# Altium schematic symbol library 1_SLOT_PCB.SCHLIB: 7 symbols
Pins are listed as number, name and electrical type; pins without a type are passive.

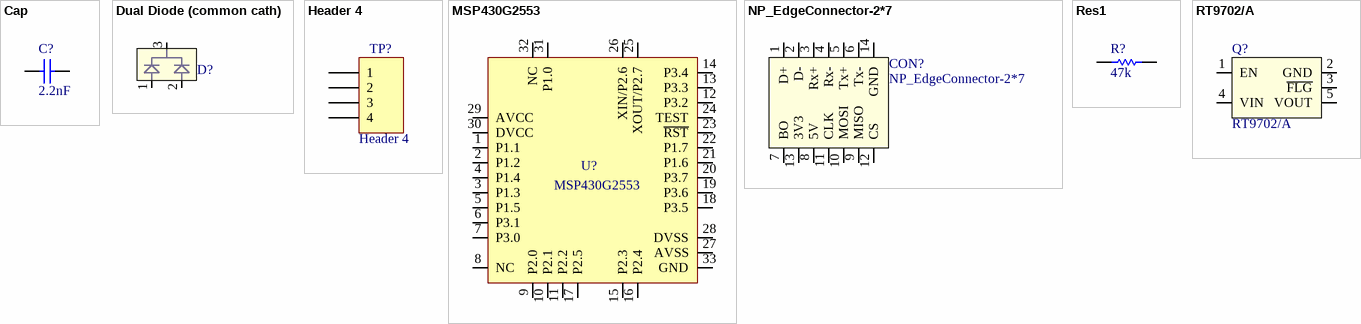
[diagram p0: symbols Cap to RT9702/A]

## Cap
designator C?  value 2.2nF  (hidden comment: Cap)
Capacitor; Published: 8-Jun-2000; LatestRevisionDate: 17-Jul-2002; LatestRevisionNote: Re-released for DXP Platform.; PackageReference: RAD-0.3; Publisher: Altium Limited; PackageDescription: Radial Cap, Thru-Hole; 2 Leads; 0.3 in Pin Spacing
footprint 0402 (Chip Capacitor, Body 1.0x0.5mm, IPC High Density)
simulation model CAP (Capacitor)
signal-integrity model Cap
pins: 1, 2

## Dual Diode (common cath)
designator D?  (value not drawn)
BAS40-05T
footprint SOT-523
pins: 1, 2, 3

## Header 4
designator TP?
Header, 4-Pin; LatestRevisionDate: 17-Jul-2002; LatestRevisionNote: Re-released for DXP Platform.; Publisher: Altium Limited
footprint header 4x1 30*30-55mil
pins: 1, 2, 3, 4

## MSP430G2553
designator U?
footprint QFN-32-5x5; pin to pad 33>0
pins: 1 P1.1, 2 P1.2, 3 P1.3, 4 P1.4, 5 P1.5, 6 P3.1, 7 P3.0, 8 NC, 9 P2.0, 10 P2.1, 11 P2.2, 12 P3.2, 13 P3.3, 14 P3.4, 15 P2.3, 16 P2.4, 17 P2.5, 18 P3.5, 19 P3.6, 20 P3.7, 21 P1.6, 22 P1.7, 23 ~{RST}, 24 TEST, 25 XOUT/P2.7, 26 XIN/P2.6, 27 AVSS, 28 DVSS, 29 AVCC, 30 DVCC, 31 P1.0, 32 NC, 33 GND

## NP_EdgeConnector-2*7
designator CON?
footprint edge-connector-0.8*1.0
pins: 1 D+, 2 D-, 3 Rx+, 4 Rx-, 5 Tx+, 6 Tx-, 7 BO, 8 5V, 9 MISO, 10 MOSI, 11 CLK, 12 CS, 13 3V3, 14 GND

## Res1
designator R?  value 47k  (hidden comment: Res1)
Resistor; Published: 8-Jun-2000; LatestRevisionDate: 17-Jul-2002; LatestRevisionNote: Re-released for DXP Platform.; PackageReference: AXIAL-0.3; Publisher: Altium Limited; PackageDescription: Axial Device, Thru-Hole; 2 Leads; 0.3 in Pin Spacing
footprint AXIAL-0.3 (Axial Device, Thru-Hole; 2 Leads; 0.3 in Pin Spacing)
simulation model RESISTOR (Resistor)
signal-integrity model Res
footprint 0402 (Chip Capacitor, Body 1.0x0.5mm, IPC High Density)
pins: 1, 2

## RT9702/A
designator Q?
RICHTEK RT9702/A
footprint SOT-23-5
pins: 1 EN, 2 GND, 3 ~{FLG}, 4 VIN, 5 VOUT